# EAGLE library part IV-11 (library Russian-VFD-tubes)
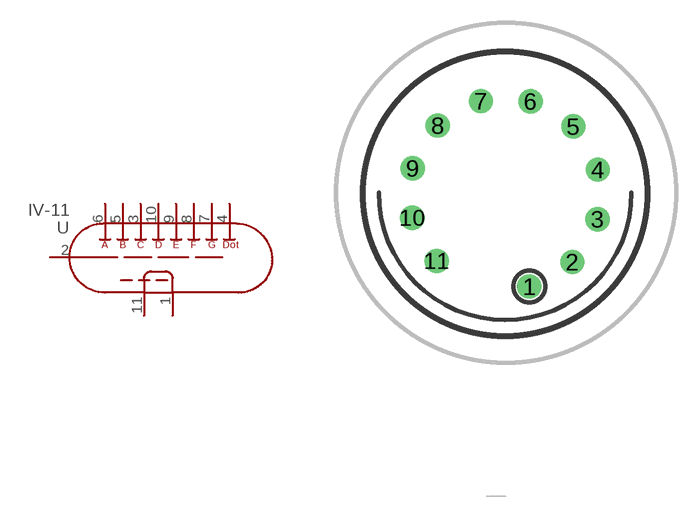
[diagram p4: symbol with the pads of IV-11; footprint IV-11]

Designator prefix -

## IV-11  [IV-11]
1  FIL_+
2  CONTROLL
3  C
4  DP
5  B
6  A
7  G
8  F
9  E
10  D
11  FLIL_-

## Footprint IV-11 (pad centres in mm)
Eagle SCR autogenerated 12 pin Nixie socket
drill 1.05: 1 1.497,-6.076; 2 4.293,-4.488; 3 5.92,-1.714; 4 5.942,1.501; 5 4.354,4.297; 6 1.581,5.924; 7 -1.635,5.947; 8 -4.43,4.358; 9 -6.057,1.585; 10 -6.08,-1.63; 11 -4.492,-4.426